# Altium schematic symbol library Bus_Repeat_TI_PCA9515APWR.SchLib: 1 symbol
Pins are listed as number, name and electrical type; pins without a type are passive.

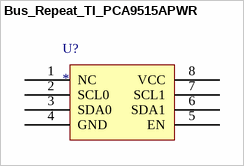
[diagram p0: symbol Bus_Repeat_TI_PCA9515APWR]

## Bus_Repeat_TI_PCA9515APWR
designator U?
pins: 1 NC, 2 SCL0, 3 SDA0, 4 GND, 5 EN, 6 SDA1, 7 SCL1, 8 VCC (power)